# EAGLE library part PICAM (library personal)
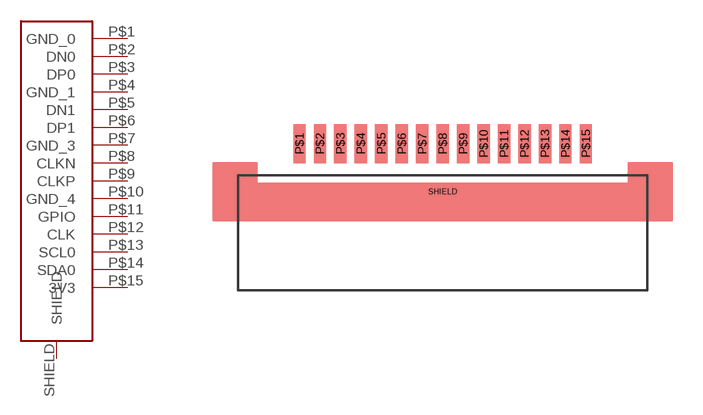
[diagram p1: symbol with the pads of FPC-CONN-15-SMD; footprint FPC-CONN-15-SMD]

Designator prefix -

## PICAM  [FPC-CONN-15-SMD]
P$1  GND_0
P$2  DN0
P$3  DP0
P$4  GND_1
P$5  DN1
P$6  DP1
P$7  GND_3
P$8  CLKN
P$9  CLKP
P$10  GND_4
P$11  GPIO
P$12  CLK
P$13  SCL0
P$14  SDA0
P$15  3V3
SHIELD  SHIELD

## Footprint FPC-CONN-15-SMD (pad centres in mm)
smd 0.6 x 1.9: P$1 -7,2.35; P$2 -6,2.35; P$3 -5,2.35; P$4 -4,2.35; P$5 -3,2.35; P$6 -2,2.35; P$7 -1,2.35; P$8 0,2.35; P$9 1,2.35; P$10 2,2.35; P$11 3,2.35; P$12 4,2.35; P$13 5,2.35; P$14 6,2.35; P$15 7,2.35
smd 1.27 x 0.635: SHIELD 0,0